# EAGLE library part ARJE-0034 (library Abracon-ARJE-0034)
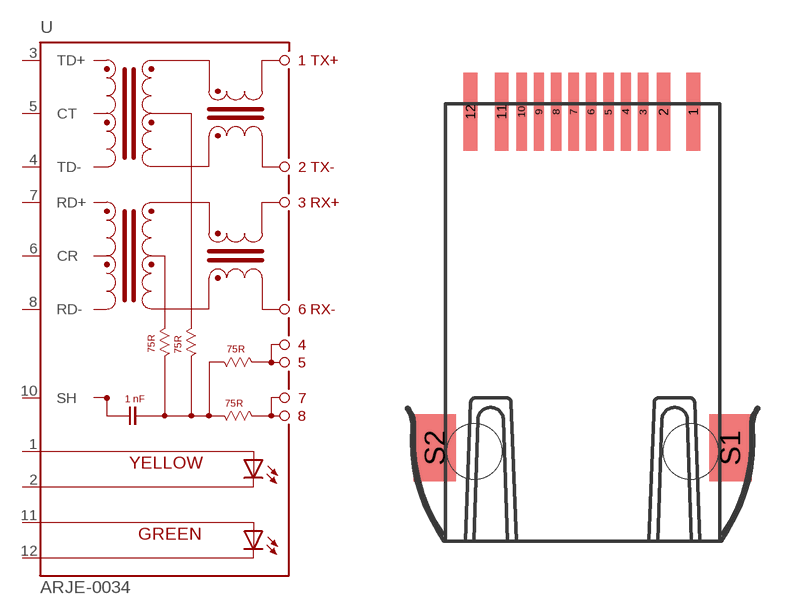
[diagram p0: symbol with the pads of J1; footprint J1]

Designator prefix -

## ARJE-0034  [J1]
1  LED_Y_A  in
2  LED_Y_C  in
3  TD+  in
4  TD-  in
5  CT  in
6  CR  in
7  RD+  in
8  RD-  in
10  SH  in
11  LED_G_A  in
12  LED_G_C  in

## Footprint J1 (pad centres in mm)
PULSEJACK (TM) 1x1 Tab-UP RJ45 10/100 Base-TX RJ45 1x1 Tab-UP with LEDs 8-pin (J1 series) and 6-pin (JP series) integrated magnetics connector, designed to support applications, such as ADSL modems, LAN-on-Motherboard, and Hub and Switches. Source: www.pulseeng.com .. PulseJack-J402.pdf
smd 0.81 x 4.6: 1 6.5,25.21; 2 4.75,25.21; 11 -4.75,25.21; 12 -6.58,25.21
smd 0.61 x 4.6: 3 3.555,25.21; 4 2.535,25.21; 5 1.515,25.21; 6 0.495,25.21; 7 -0.525,25.21; 8 -1.545,25.21; 9 -2.565,25.21; 10 -3.585,25.21
smd 2.49 x 3.91: S1 8.675,5.5; S2 -8.675,5.5
hole 3.25 at -6.35,5.28
hole 3.25 at 6.35,5.28